# Altium schematic symbol library MCP1727T-3302ESN.SchLib: 1 symbol
Pins are listed as number, name and electrical type; pins without a type are passive.

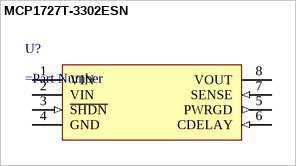
[diagram p0: symbol MCP1727T-3302ESN]

## MCP1727T-3302ESN
designator U?
=Description
pins: 1 VIN (power), 2 VIN (power), 3 ~{SHDN} (in), 4 GND (power), 5 PWRGD (out), 6 CDELAY (in), 7 SENSE (in), 8 VOUT (power)